# Altium integrated library Integrated_Library1.IntLib: 4 symbols
Pins are listed as number, name and electrical type; pins without a type are passive.

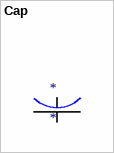
[diagram p0: symbol Cap]

## Cap
designator *
footprint C0603
footprint C0805
footprint C1206
footprint C1210
footprint C1812
footprint C2225
pins: 1, 2


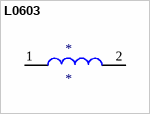
[diagram p1: symbol L0603]

## L0603
designator *
footprint L0603
pins: 1, 2


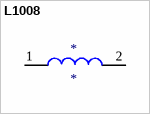
[diagram p2: symbol L1008]

## L1008
designator *
Vishay IMC1008E2RJ7
footprint L1008
pins: 1, 2


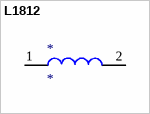
[diagram p3: symbol L1812]

## L1812
designator *
Vishay IMC1812ER150J
footprint L1812
pins: 1, 2